# Altium footprint library D-PAK.PcbLib: 28 footprints (part 1 of 2)
Each footprint in its own frame and in the unit in brackets; x right, y up, seen from the top. Pads: shape width x height; smd on the part's side, far side on the other; paste and mask are expansions set on the pad; w line width, h text height; cw(c..) or ccw(c..) is an arc to the next point about the centre after c.
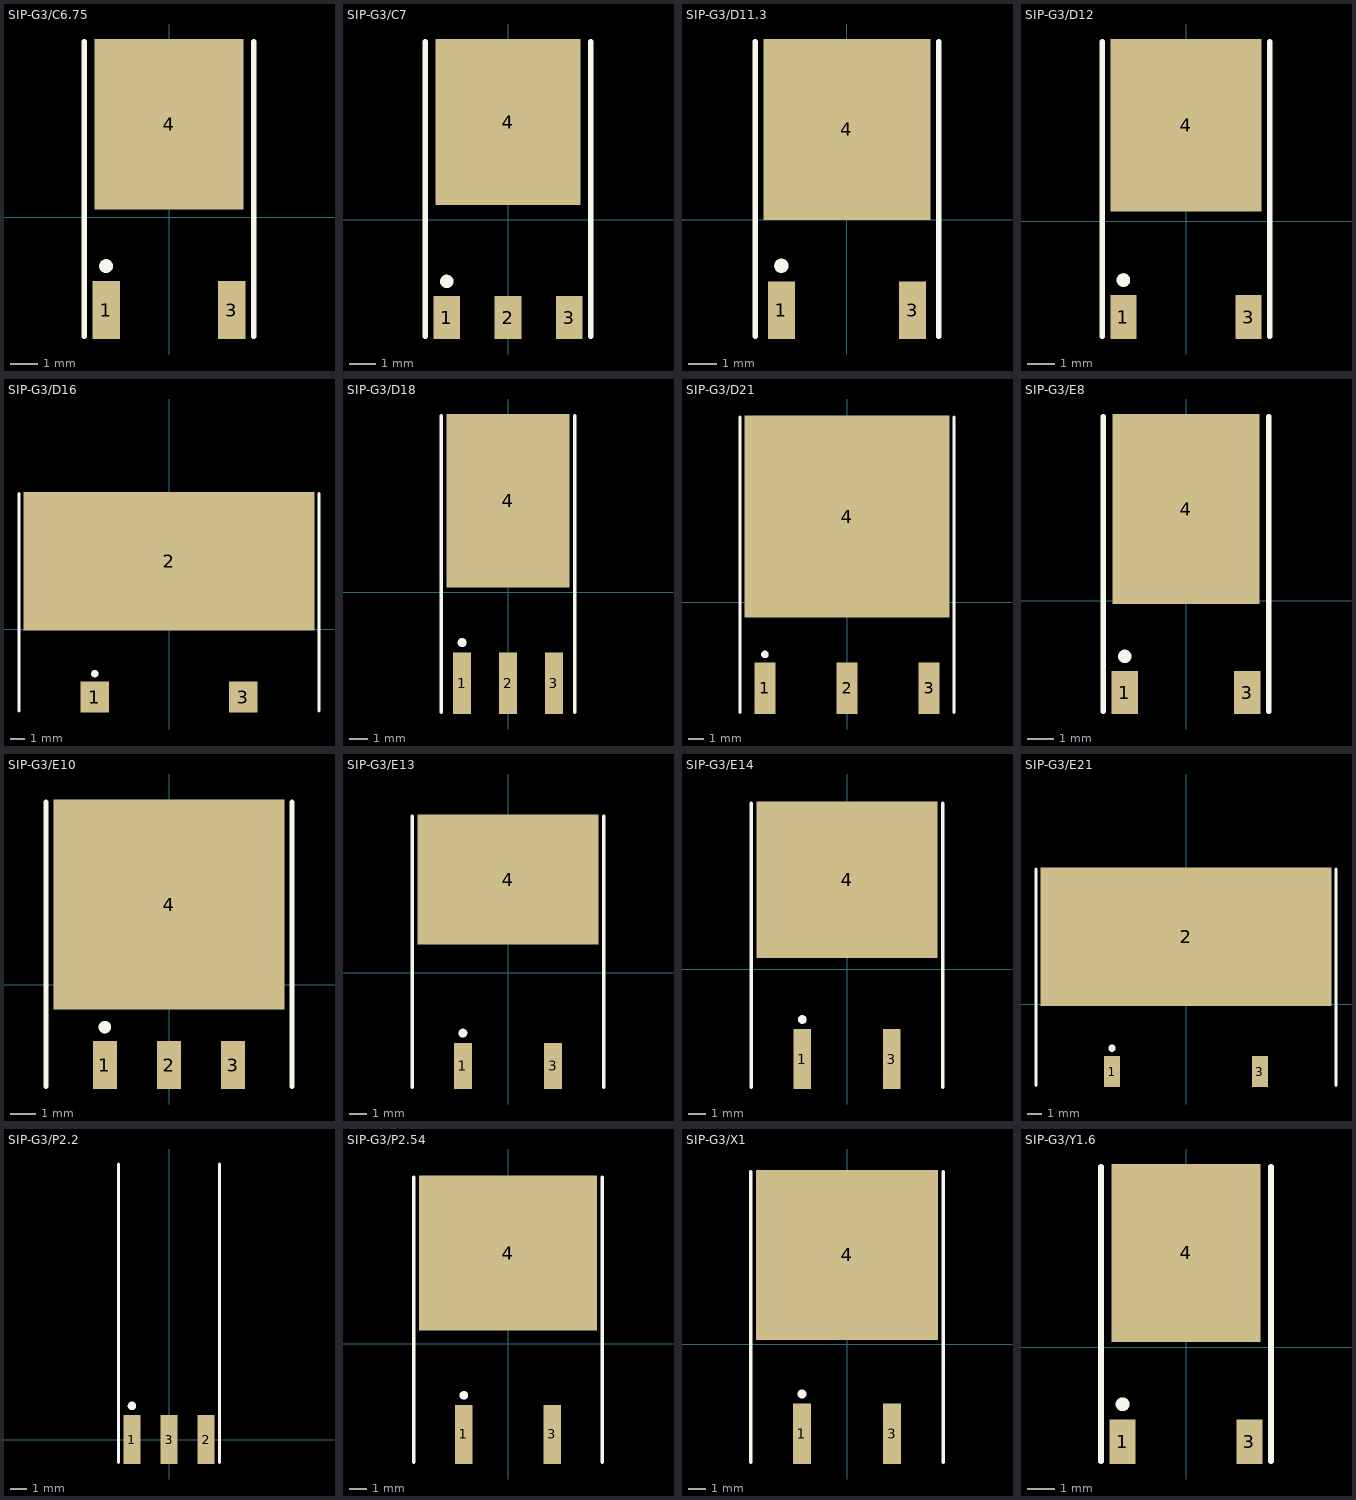
[diagram p0: the footprints below, top view; thin cyan lines are the x and y axes]

## SIP-G3/C6.75 [mm] "D-PAK/TO-252-AA; 3 Leads (1 Cropped); Body 10.1 (inc. leads) x 6.6 mm (LxW max)"
height 2.4
pads (3):
  rect 1x2.1 smd: 1(-2.285,-3.375) 3(2.285,-3.375)
  rect 5.4x6.2 smd: 4(0,3.375)
Top Overlay:
  circle w0.25: c-2.285,-1.775 r0.125
  lines w0.2: -3.085,-4.325 -3.085,6.375 ; 3.085,-4.325 3.085,6.375

## SIP-G3/C7 [mm] "D-PAK/TO-252-AA; 3 Leads (1 Cropped); Body 10.2 (inc. leads) x 6.7 mm (LxW max)"
height 2.38
pads (4):
  rect 1x1.6 smd: 1(-2.285,-3.65) 2(0,-3.65) 3(2.285,-3.65)
  rect 5.4x6.2 smd: 4(0,3.65)
Top Overlay:
  circle w0.25: c-2.285,-2.3 r0.125
  lines w0.2: -3.085,-4.35 -3.085,6.65 ; 3.085,-4.35 3.085,6.65

## SIP-G3/D11.3 [mm] "PowerFLEX (D-PAK/TO-252-AA); 3 Leads (1 Cropped); Body 9.7 (inc. leads) x 6.2 mm (LxW max)"
height 2.03
pads (3):
  rect 0.95x2 smd: 1(-2.285,-3.15) 3(2.285,-3.15)
  rect 5.8x6.3 smd: 4(0,3.15)
Top Overlay:
  circle w0.25: c-2.285,-1.6 r0.125
  lines w0.2: -3.2,-4.05 -3.2,6.2 ; 3.2,-4.05 3.2,6.2

## SIP-G3/D12 [mm] "D-PAK/TO-252-AA; 3 Leads (1 Cropped); Body 10.2 (inc. leads) x 6.7 mm (LxW max)"
height 2.38
pads (3):
  rect 0.95x1.6 smd: 1(-2.285,-3.5) 3(2.285,-3.5)
  rect 5.5x6.3 smd: 4(0,3.5)
Top Overlay:
  circle w0.25: c-2.285,-2.15 r0.125
  lines w0.2: -3.06,-4.2 -3.06,6.55 ; 3.06,-4.2 3.06,6.55

## SIP-G3/D16 [mm] "Single-Ended SM Package; 3 Leads (1 Cropped); Body (inc. leads) 14.4 x 19.9 mm (LxW max)"
height 5.97
pads (3):
  rect 1.95x2.1 smd: 1(-5.08,-4.65) 3(5.08,-4.65)
  rect 19.95x9.5 smd: 2(0,4.65)
Top Overlay:
  circle w0.25: c-5.08,-3.05 r0.125
  lines w0.2: -10.275,-5.6 -10.275,9.3 ; 10.275,-5.6 10.275,9.3

## SIP-G3/D18 [mm] "D2-PAK/TO-263-AB; 3 Leads (1 Cropped); Body 15.9 (inc. leads) x 10.3 mm (LxW max)"
height 4.83
pads (4):
  rect 1x3.4 smd: 1(-2.54,-5.05) 2(0,-5.05) 3(2.54,-5.05)
  rect 6.8x9.6 smd: 4(0,5.05)
Top Overlay:
  circle w0.25: c-2.54,-2.8 r0.125
  lines w0.2: -3.7,-6.65 -3.7,9.75 ; 3.7,-6.65 3.7,9.75

## SIP-G3/D21 [mm] "D3-PAK/TO-268-AA; 3 Leads (1 Cropped); Body 19.1 (inc. leads) x 16.1 mm (LxW max)"
height 5.1
pads (4):
  rect 1.4x3.4 smd: 1(-5.45,-5.7) 2(0,-5.7) 3(5.45,-5.7)
  rect 13.6x13.4 smd: 4(0,5.7)
Top Overlay:
  circle w0.25: c-5.45,-3.45 r0.125
  lines w0.2: -7.1,-7.3 -7.1,12.3 ; 7.1,-7.3 7.1,12.3

## SIP-G3/E8 [mm] "D-PAK/TO-252-AA; 3 Leads (1 Cropped); Body 10.4 (inc. leads) x 6.7 mm (LxW max)"
height 2.38
pads (3):
  rect 1x1.6 smd: 1(-2.285,-3.425) 3(2.285,-3.425)
  rect 5.5x7.1 smd: 4(0,3.425)
Top Overlay:
  circle w0.25: c-2.285,-2.075 r0.125
  lines w0.2: -3.085,-4.125 -3.085,6.875 ; 3.085,-4.125 3.085,6.875

## SIP-G3/E10 [mm] "PowerFLEX; 3 Leads; Body 10.7 (inc. leads) x 9.5 mm (LxW max)"
height 2.03
pads (4):
  rect 0.95x1.9 smd: 1(-2.54,-3.175) 2(0,-3.175) 3(2.54,-3.175)
  rect 9.15x8.3 smd: 4(0,3.175)
Top Overlay:
  circle w0.25: c-2.54,-1.675 r0.125
  lines w0.2: -4.875,-4.025 -4.875,7.225 ; 4.875,-4.025 4.875,7.225

## SIP-G3/E13 [mm] "D2-PAK/TO-263-AB; 3 Leads (1 Cropped); Body 14.7 (inc. leads) x 10.2 mm (LxW max)"
height 4.58
pads (3):
  rect 1x2.6 smd: 1(-2.54,-5.25) 3(2.54,-5.25)
  rect 10.2x7.3 smd: 4(0,5.25)
Top Overlay:
  circle w0.25: c-2.54,-3.4 r0.125
  lines w0.2: -5.4,-6.45 -5.4,8.8 ; 5.4,-6.45 5.4,8.8

## SIP-G3/E14 [mm] "D2-PAK/TO-263-AB; 3 Leads (1 Cropped); Body 15.6 (inc. leads) x 10.3 mm (LxW max)"
height 4.57
pads (3):
  rect 1x3.4 smd: 1(-2.54,-5.1) 3(2.54,-5.1)
  rect 10.3x8.9 smd: 4(0,5.1)
Top Overlay:
  circle w0.25: c-2.54,-2.85 r0.125
  lines w0.2: -5.45,-6.7 -5.45,9.45 ; 5.45,-6.7 5.45,9.45

## SIP-G3/E21 [mm] "Single-Ended SM Package; 3 Leads (1 Cropped); Body (inc. leads) 14.3 x 20 mm (LxW max)"
height 6
pads (3):
  rect 1.1x2.1 smd: 1(-5.08,-4.625) 3(5.08,-4.625)
  rect 20x9.5 smd: 2(0,4.625)
Top Overlay:
  circle w0.25: c-5.08,-3.025 r0.125
  lines w0.2: -10.3,-5.575 -10.3,9.275 ; 10.3,-5.575 10.3,9.275

## SIP-G3/P2.2 [mm] "Single-Ended SM Package; 3 Leads; Body 17.1 (inc. leads) x 7.8 mm (LxW max)"
height 2.7
pads (3):
  rect 1x2.9 smd: 1(-2.2,0) 2(2.2,0) 3(0,0)
Top Overlay:
  circle w0.25: c-2.2,2 r0.125
  lines w0.2: -3,-1.35 -3,16.35 ; 3,-1.35 3,16.35

## SIP-G3/P2.54 [mm] "D2-PAK/TO-263-AB; 3 Leads (1 Cropped); Body 15.9 (inc. leads) x 10.4 mm (LxW max)"
height 4.6
pads (3):
  rect 1x3.4 smd: 1(-2.54,-5.225) 3(2.54,-5.225)
  rect 10.25x8.9 smd: 4(0,5.225)
Top Overlay:
  circle w0.25: c-2.54,-2.975 r0.125
  lines w0.2: -5.425,-6.825 -5.425,9.575 ; 5.425,-6.825 5.425,9.575

## SIP-G3/X1 [mm] "D2-PAK/TO-263-AB; 3 Leads (1 Cropped); Body 15.9 (inc. leads) x 10.3 mm (LxW max)"
height 4.83
pads (3):
  rect 1x3.4 smd: 1(-2.54,-5.05) 3(2.54,-5.05)
  rect 10.25x9.6 smd: 4(0,5.05)
Top Overlay:
  circle w0.25: c-2.54,-2.8 r0.125
  lines w0.2: -5.425,-6.65 -5.425,9.75 ; 5.425,-6.65 5.425,9.75

## SIP-G3/Y1.6 [mm] "D-PAK/TO-252-AA; 3 Leads (1 Cropped); Body 10.2 (inc. leads) x 6.7 mm (LxW max)"
height 2.38
pads (3):
  rect 0.95x1.6 smd: 1(-2.285,-3.4) 3(2.285,-3.4)
  rect 5.35x6.4 smd: 4(0,3.4)
Top Overlay:
  circle w0.25: c-2.285,-2.05 r0.125
  lines w0.2: -3.06,-4.1 -3.06,6.5 ; 3.06,-4.1 3.06,6.5